# EAGLE library part 1,27MMCONNX8 (library samuel)
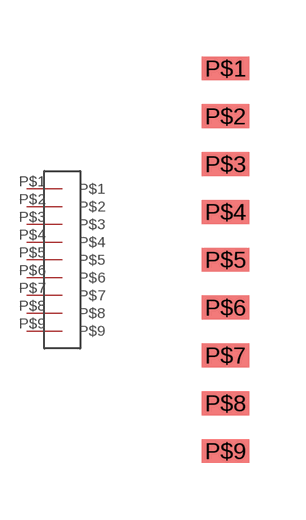
[diagram p6: symbol with the pads of 1,27MMCONNX8; footprint 1,27MMCONNX8]

Designator prefix -

## 1,27MMCONNX8  [1,27MMCONNX8]
P$1  P$1
P$2  P$2
P$3  P$3
P$4  P$4
P$5  P$5
P$6  P$6
P$7  P$7
P$8  P$8
P$9  P$9

## Footprint 1,27MMCONNX8 (pad centres in mm)
smd 1.27 x 0.635: P$1 0,5.08; P$2 0,3.81; P$3 0,2.54; P$4 0,1.27; P$5 0,0; P$6 0,-1.27; P$7 0,-2.54; P$8 0,-3.81; P$9 0,-5.08